# EAGLE library part PESD3V3X4UHCYL (library 000_VansAircraft)
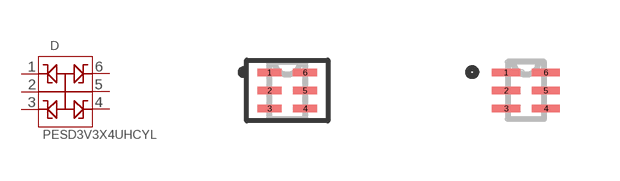
[diagram p7: symbol with the pads of DFN1308-6_SOT8006_NEX; footprints DFN1308-6_SOT8006_NEX, DFN1308-6_SOT8006_NEX-M]

Designator prefix D

## PESD3V3X4UHCYL (COPYRIGHT: Copyright (C) 2025 Ultra Librarian. All rights reserved.; MANUFACTURER_NAME: Nexperia; MANUFACTURER_PART_NUMBER: PESD3V3X4UHCYL)  [DFN1308-6_SOT8006_NEX]
1  1
2  2
3  3
4  4
5  5
6  6

## PESD3V3X4UHCYLDFN1308-6_SOT8006_NEX-M (COPYRIGHT: Copyright (C) 2025 Ultra Librarian. All rights reserved.; MANUFACTURER_NAME: Nexperia; MANUFACTURER_PART_NUMBER: PESD3V3X4UHCYL)  [DFN1308-6_SOT8006_NEX-M]
Pads as for DFN1308-6_SOT8006_NEX

## PESD3V3X4UHCYLDFN1308-6_SOT8006_NEX-L (COPYRIGHT: Copyright (C) 2025 Ultra Librarian. All rights reserved.; MANUFACTURER_NAME: Nexperia; MANUFACTURER_PART_NUMBER: PESD3V3X4UHCYL)  [DFN1308-6_SOT8006_NEX-L]
Pads as for DFN1308-6_SOT8006_NEX

## Footprint DFN1308-6_SOT8006_NEX (pad centres in mm)
smd 0.61 x 0.178: 1 -0.445,0.45; 2 -0.445,0; 3 -0.445,-0.45; 4 0.445,-0.45; 5 0.445,0; 6 0.445,0.45

## Footprint DFN1308-6_SOT8006_NEX-M (pad centres in mm)
smd 0.711 x 0.178: 1 -0.495,0.45; 2 -0.495,0; 3 -0.495,-0.45; 4 0.495,-0.45; 5 0.495,0; 6 0.495,0.45

## Footprint DFN1308-6_SOT8006_NEX-L (pad centres in mm)
smd 0.508 x 0.178: 1 -0.394,0.45; 2 -0.394,0; 3 -0.394,-0.45; 4 0.394,-0.45; 5 0.394,0; 6 0.394,0.45